# Altium footprint library 58.13.0093_400_Rev00.PcbLib: 48 footprints (part 1 of 3)
Each footprint in its own frame and in the unit in brackets; x right, y up, seen from the top. Pads: shape width x height; smd on the part's side, far side on the other; paste and mask are expansions set on the pad; w line width, h text height; cw(c..) or ccw(c..) is an arc to the next point about the centre after c.
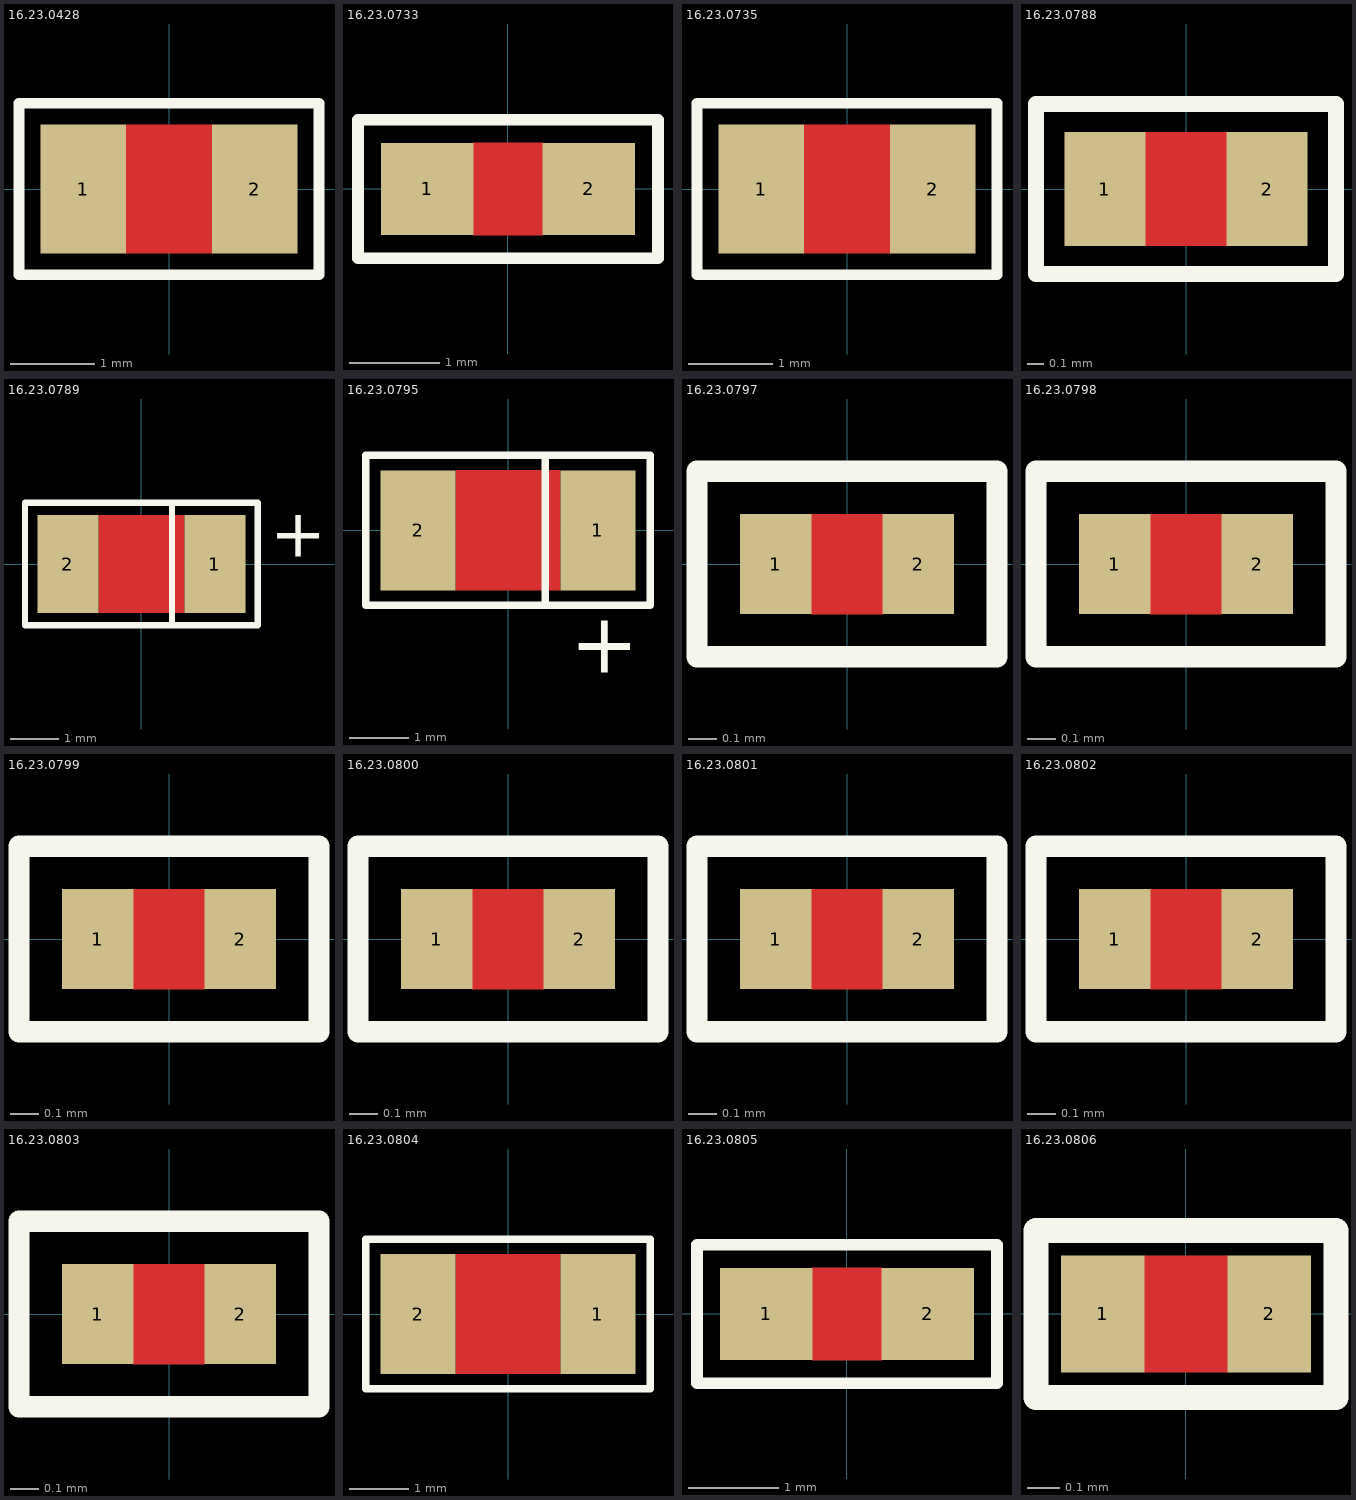
[diagram p0: the footprints below, top view; thin cyan lines are the x and y axes]

## 16.23.0428 [mil]
pads (2):
  rect 40x60 smd: 1(-40,0) 2(40,0)
Top Layer:
  pour cut-out: -20,30 -20,-30 20,-30 20,30
Top Overlay:
  lines w5: -70,-40 -70,40 70,40 70,-40 -70,-40
3D body "0805 SMD Capacitor.step": height 30.79, standoff 0, extent -39.37,-24.5 39.37,24.71

## 16.23.0733 [mil]
pads (2):
  rect 40x40 smd: 1(-35,0) 2(35,0)
Top Layer:
  pour cut-out: -15,20 -15,-20 15,-20 15,20
Top Overlay:
  lines w5: -65,-30 -65,30 65,30 65,-30 -65,-30
3D body "0603 SMD Capacitor.step": height 11.89, standoff 0, extent -31.49,-15.75 31.5,15.75

## 16.23.0735 [mil]
pads (2):
  rect 40x60 smd: 1(-40,0) 2(40,0)
Top Layer:
  pour cut-out: -20,30 -20,-30 20,-30 20,30
Top Overlay:
  lines w5: -70,-40 70,-40 70,40 -70,40 -70,-40
3D body "0805 SMD Capacitor.step": height 30.79, standoff 0, extent -39.37,-24.5 39.37,24.71

## 16.23.0788 [mil]
pads (2):
  rect 20x28 smd: 1(-20,0) 2(20,0)
Top Layer:
  pour cut-out: -10,14 -10,-14 10,-14 10,14
Top Overlay:
  lines w4: -37,-21 37,-21 37,21 -37,21 -37,-21
3D body "0402 SMD Capacitor.step": height 7.95, standoff 0, extent -19.68,-11.8 19.7,11.82

## 16.23.0789 [mil]
pads (2):
  rect 50x80 smd: 1(60,0) 2(-60,0)
Top Layer:
  pour cut-out: -35,40 -35,-40 35,-40 35,40
Top Overlay:
  lines w5: 25,-50 25,50 ; -95,-50 -95,50 95,50 95,-50 -95,-50
  text "+" at 105,6 h40
3D body "1206 SMD CAP.step": height 39.45, standoff 0, extent -62.98,-31.49 63,31.5

## 16.23.0795 [mil]
pads (2):
  rect 50x80 smd: 1(60,0) 2(-60,0)
Top Layer:
  pour cut-out: -35,40 -35,-40 35,-40 35,40
Top Overlay:
  lines w5: 25,-50 25,50 ; -95,-50 -95,50 95,50 95,-50 -95,-50
  text "+" at 41.61,-95 h40
3D body "1206 SMD CAP.step": height 39.45, standoff 0, extent -62.98,-31.49 63,31.5

## 16.23.0797 [mil]
pads (2):
  rect 10x14 smd: 1(-10,0) 2(10,0)
Top Layer:
  pour cut-out: -5,7 -5,-7 5,-7 5,7
Top Overlay:
  lines w3: -21,-13 -21,13 21,13 21,-13 -21,-13
3D body "0201 Cap.step": height 12.1, standoff 0, extent -11.99,-5.99 12.01,6.01

## 16.23.0798 [mil]
pads (2):
  rect 10x14 smd: 1(-10,0) 2(10,0)
Top Layer:
  pour cut-out: -5,7 -5,-7 5,-7 5,7
Top Overlay:
  lines w3: -21,-13 21,-13 21,13 -21,13 -21,-13
3D body "0201 Cap.step": height 12.1, standoff 0, extent -11.99,-5.99 12.01,6.01

## 16.23.0799 [mil]
pads (2):
  rect 10x14 smd: 1(-10,0) 2(10,0)
Top Layer:
  pour cut-out: -5,7 -5,-7 5,-7 5,7
Top Overlay:
  lines w3: -21,-13 21,-13 21,13 -21,13 -21,-13
3D body "0201 Cap.step": height 12.1, standoff 0, extent -11.99,-5.99 12.01,6.01

## 16.23.0800 [mil]
pads (2):
  rect 10x14 smd: 1(-10,0) 2(10,0)
Top Layer:
  pour cut-out: -5,7 -5,-7 5,-7 5,7
Top Overlay:
  lines w3: -21,-13 21,-13 21,13 -21,13 -21,-13
3D body "0201 Cap.step": height 12.1, standoff 0, extent -11.99,-5.99 12.01,6.01

## 16.23.0801 [mil]
pads (2):
  rect 10x14 smd: 1(-10,0) 2(10,0)
Top Layer:
  pour cut-out: -5,7 -5,-7 5,-7 5,7
Top Overlay:
  lines w3: -21,-13 -21,13 21,13 21,-13 -21,-13
3D body "0201 Cap.step": height 12.1, standoff 0, extent -11.99,-5.99 12.01,6.01

## 16.23.0802 [mil]
pads (2):
  rect 10x14 smd: 1(-10,0) 2(10,0)
Top Layer:
  pour cut-out: -5,7 -5,-7 5,-7 5,7
Top Overlay:
  lines w3: -21,-13 -21,13 21,13 21,-13 -21,-13
3D body "0201 Cap.step": height 12.1, standoff 0, extent -11.99,-5.99 12.01,6.01

## 16.23.0803 [mil]
pads (2):
  rect 10x14 smd: 1(-10,0) 2(10,0)
Top Layer:
  pour cut-out: -5,7 -5,-7 5,-7 5,7
Top Overlay:
  lines w3: -21,-13 21,-13 21,13 -21,13 -21,-13
3D body "0201 Cap.step": height 12.1, standoff 0, extent -11.99,-5.99 12.01,6.01

## 16.23.0804 [mil]
pads (2):
  rect 50x80 smd: 1(60,0) 2(-60,0)
Top Layer:
  pour cut-out: -35,40 -35,-40 35,-40 35,40
Top Overlay:
  lines w5: -95,-50 95,-50 95,50 -95,50 -95,-50
3D body "1206 SMD CAP.step": height 39.45, standoff 0, extent -62.98,-31.49 63,31.5

## 16.23.0805 [mil]
pads (2):
  rect 40x40 smd: 1(-35,0) 2(35,0)
Top Layer:
  pour cut-out: -15,20 -15,-20 15,-20 15,20
Top Overlay:
  lines w5: -65,-30 -65,30 65,30 65,-30 -65,-30
3D body "0603 SMD Capacitor.step": height 11.89, standoff 0, extent -31.49,-15.75 31.5,15.75

## 16.23.0806 [mil]
pads (2):
  rect 10x14 smd: 1(-10,0) 2(10,0)
Top Layer:
  pour cut-out: -5,7 -5,-7 5,-7 5,7
Top Overlay:
  lines w3: -18,-10 18,-10 18,10 -18,10 -18,-10
3D body "0201 Cap.step": height 12.1, standoff 0, extent -11.99,-5.99 12.01,6.01